# EAGLE library part MAX1947 (library SCORCH)
MAX1947 - 1.8V Boost Reg 150mA from 0.7V - 2MHz Switch, 94% efficency http://onecall.farnell.com/maxim-integrated-products/max1947eta18-t/ic-dc-dc-conv-step-up-1-8v-8qfn/dp/1609613 http://www.farnell.com/datasheets/50237.pdf
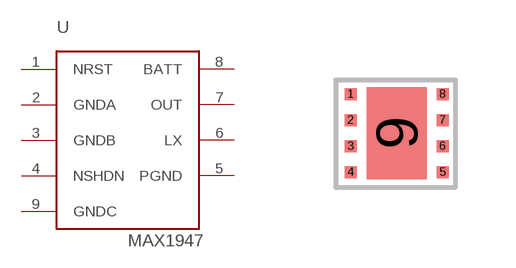
[diagram p0: symbol with the pads of 8QFN; footprint 8QFN]

Designator prefix -

## MAX1947MAX1947  [8QFN]
1  NRST
2  GNDA
3  GNDB
4  NSHDN
5  PGND
6  LX
7  OUT
8  BATT
9  GNDC

## Footprint 8QFN (pad centres in mm)
smd 0.3 x 0.3: 1 -1.125,1; 2 -1.125,0.35; 3 -1.125,-0.3; 4 -1.125,-0.95; 5 1.175,-0.95; 6 1.175,-0.3; 7 1.175,0.35; 8 1.175,1
smd 1.5 x 2.3: 9 0.025,0.025